# Altium schematic symbol library ResistorSCH.SchLib: 8 symbols
Pins are listed as number, name and electrical type; pins without a type are passive.

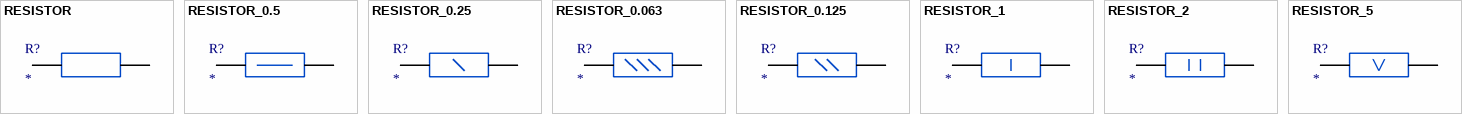
[diagram p0: symbols RESISTOR to RESISTOR_5]

## RESISTOR
designator R?
value: *
footprint R0603
pins: 1, 2

## RESISTOR_0.5
designator R?
value: *
pins: 1, 2

## RESISTOR_0.25
designator R?
value: *
pins: 1, 2

## RESISTOR_0.063
designator R?
value: *
pins: 1, 2

## RESISTOR_0.125
designator R?
value: *
pins: 1, 2

## RESISTOR_1
designator R?
value: *
pins: 1, 2

## RESISTOR_2
designator R?
value: *
pins: 1, 2

## RESISTOR_5
designator R?
value: *
pins: 1, 2